# Altium footprint library Blue_Technix.PcbLib: 1 footprints
Each footprint in its own frame and in the unit in brackets; x right, y up, seen from the top. Pads: shape width x height; smd on the part's side, far side on the other; paste and mask are expansions set on the pad; w line width, h text height; cw(c..) or ccw(c..) is an arc to the next point about the centre after c.
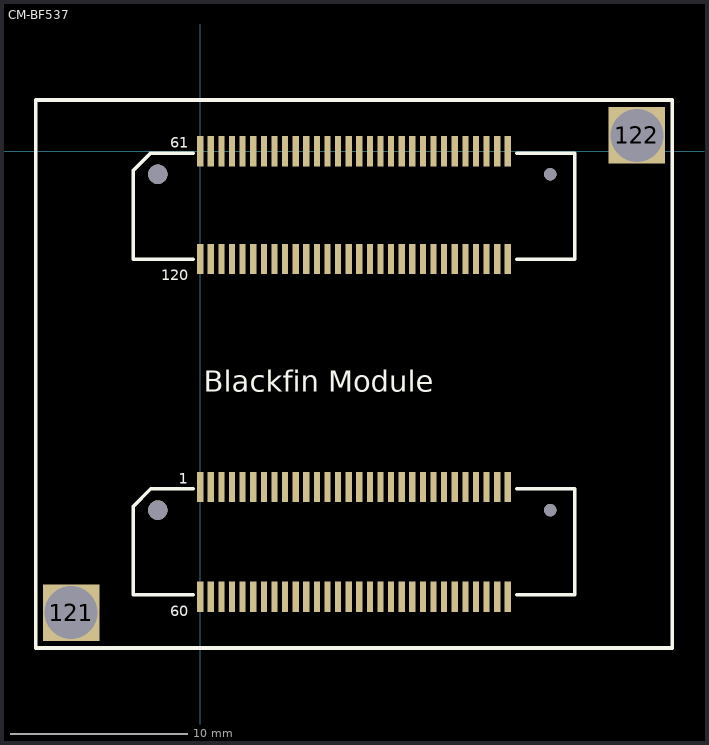
[diagram p0: the footprint, top view; thin cyan lines are the x and y axes]

## CM-BF537 [mm] "Blackfin Module Receptable"
height 2.25
pads (126):
  rect 0.35x1.7 smd paste+0 mask+0.1: 1(0,-19)
  rect 0.35x1.7 smd paste+0: 2(0.6,-19) 3(1.2,-19) 4(1.8,-19) 5(2.4,-19) 6(3,-19) 7(3.6,-19) 8(4.2,-19) 9(4.8,-19) 10(5.4,-19) 11(6,-19) 12(6.6,-19) 13(7.2,-19) 14(7.8,-19) 15(8.4,-19) 16(9,-19) 17(9.6,-19) 18(10.2,-19) 19(10.8,-19) 20(11.4,-19) 21(12,-19) 22(12.6,-19) 23(13.2,-19) 24(13.8,-19) 25(14.4,-19) 26(15,-19) 27(15.6,-19) 28(16.2,-19) 29(16.8,-19) 30(17.4,-19) 31(17.4,-25.2) 32(16.8,-25.2) 33(16.2,-25.2) 34(15.6,-25.2) 35(15,-25.2) 36(14.4,-25.2) 37(13.8,-25.2) 38(13.2,-25.2) 39(12.6,-25.2) 40(12,-25.2) 41(11.4,-25.2) 42(10.8,-25.2) 43(10.2,-25.2) 44(9.6,-25.2) 45(9,-25.2) 46(8.4,-25.2) 47(7.8,-25.2) 48(7.2,-25.2) 49(6.6,-25.2) 50(6,-25.2) 51(5.4,-25.2) 52(4.8,-25.2) 53(4.2,-25.2) 54(3.6,-25.2) 55(3,-25.2) 56(2.4,-25.2) 57(1.8,-25.2) 58(1.2,-25.2) 59(0.6,-25.2) 60(0,-25.2)
  rect 0.35x1.7 smd: 61(0,0) 62(0.6,0) 63(1.2,0) 64(1.8,0) 65(2.4,0) 66(3,0) 67(3.6,0) 68(4.2,0) 69(4.8,0) 70(5.4,0) 71(6,0) 72(6.6,0) 73(7.2,0) 74(7.8,0) 75(8.4,0) 76(9,0) 77(9.6,0) 78(10.2,0) 79(10.8,0) 80(11.4,0) 81(12,0) 82(12.6,0) 83(13.2,0) 84(13.8,0) 85(14.4,0) 86(15,0) 87(15.6,0) 88(16.2,0) 89(16.8,0) 90(17.4,0) 91(17.4,-6.1) 92(16.8,-6.1) 93(16.2,-6.1) 94(15.6,-6.1) 95(15,-6.1) 96(14.4,-6.1) 97(13.8,-6.1) 98(13.2,-6.1) 99(12.6,-6.1) 100(12,-6.1) 101(11.4,-6.1) 102(10.8,-6.1) 103(10.2,-6.1) 104(9.6,-6.1) 105(9,-6.1) 106(8.4,-6.1) 107(7.8,-6.1) 108(7.2,-6.1) 109(6.6,-6.1) 110(6,-6.1) 111(5.4,-6.1) 112(4.8,-6.1) 113(4.2,-6.1) 114(3.6,-6.1) 115(3,-6.1) 116(2.4,-6.1) 117(1.8,-6.1) 118(1.2,-6.1) 119(0.6,-6.1) 120(0,-6.1)
  rect 3.2x3.2 hole 3: 121(-7.3,-26.1) 122(24.7,0.9)
  round 1.1 hole 1.1: ""(-2.4,-20.3) ""(-2.4,-1.3)
  round 0.7 hole 0.7: ""(19.8,-20.3) ""(19.8,-1.3)
Top Overlay:
  lines w0.2: -0.4,-25.1 -3.8,-25.1 -3.8,-20.1 -2.8,-19.1 -0.4,-19.1 ; -0.4,-6.1 -3.8,-6.1 -3.8,-1.1 -2.8,-0.1 -0.4,-0.1 ; 17.9,-25.1 21.2,-25.1 21.2,-19.1 17.9,-19.1 ; 17.9,-6.1 21.2,-6.1 21.2,-0.1 17.9,-0.1 ; -9.3,-28.1 -9.3,2.9 26.7,2.9 26.7,-28.1 -9.3,-28.1
  text "Blackfin Module" at 0.2,-13.6 h1.2
  text "120" at -2.2,-7.3 h0.6
  text "61" at -1.7,0.2 h0.6
  text "60" at -1.7,-26.3 h0.6
  text "1" at -1.2,-18.8 h0.6
3D body "FX8-60S-SV.stp": height 2.15, standoff -0.85, extent -3.6,-25.6 21,-18.6
3D body "FX8-60S-SV.stp": height 2.15, standoff -0.85, extent -3.6,-6.5 21,0.5